# Altium schematic symbol library Alhambra_II.SCHLIB: 50 symbols
Pins are listed as number, name and electrical type; pins without a type are passive.

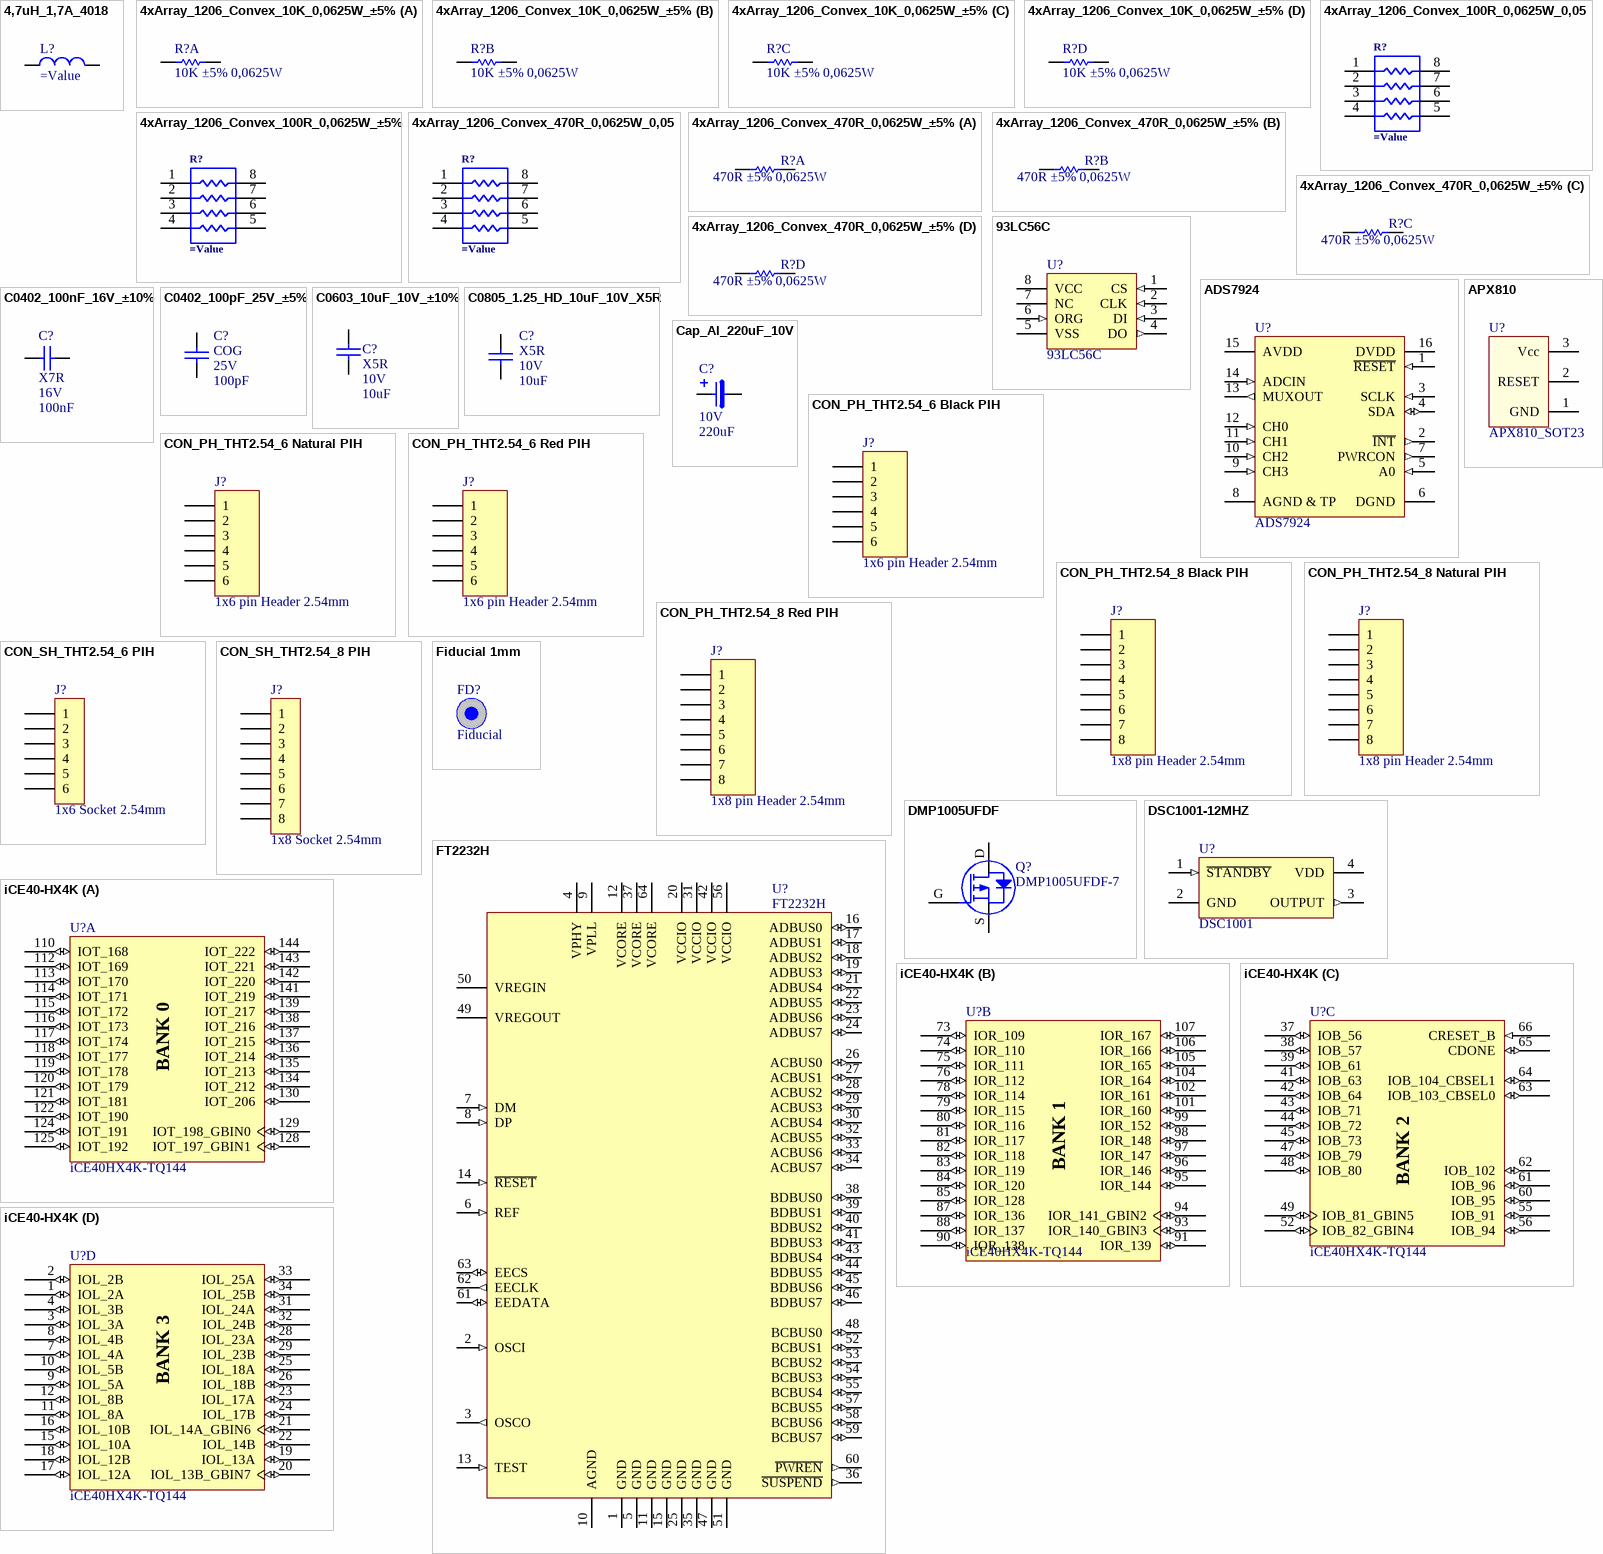
[diagram p0: symbols 4,7uH_1,7A_4018 to iCE40-HX4K]

## 4,7uH_1,7A_4018
designator L?
Inductor SMD; Part Number: 4,7uH_1,7A_4018; Manufacturer: WE; L: 4,7uH; Rdc: 0,070R; Current: 1,7A; Current Sat#: 2,2A; OrderingCode: 74404042047; Temp_ Max: 125; Temp_ Min: -40; Value: 4,7uH 1,7A; Supplier: WE; Price (€): 0,128
signal-integrity model Inductor
footprint 4018_WE_LQS_4R7
pins: 1, 2

## 4xArray_1206_Convex_10K_0,0625W_±5%
designator R?, comment value 10K ±5% 0,0625W  (hidden comment: Resistor_x4_Parts)
Resistor; Part Number: 4xArray_1206_Convex_10K_0,0625W_±5%; Manufacturer: Yageo; Tolerance: ±5%; OrderingCode: YC164-JR-0710KL; Power: 0,0625W; Resistance: 10K; Temp_ Max: 155; Temp_ Min: -55; PackageDescription: SMD; Price (€): 0,006
footprint 4xArray_1206_Convex
part A pins: 1, 8
part B pins: 2, 7
part C pins: 3, 6
part D pins: 4, 5

## 4xArray_1206_Convex_100R_0,0625W_0,05
designator R?
Resistor, Array 4x1; Part Number: 4xArray_1206_Convex_100R_0,0625W_0,05; Manufacturer: Yageo; Resistance: 100R; Power: 0,0625W; Tolerance: 5%; OrderingCode: YC164-JR-07100RL; Temp_ Max: 155; Temp_ Min: -25; Value: 100R 5% 0,0625W; Price (€): 0,005
footprint 4xArray_1206_Convex
pins: 1, 2, 3, 4, 5, 6, 7, 8
1 alternate drawing of the same symbol

## 4xArray_1206_Convex_100R_0,0625W_±5%
designator R?
Resistor, Array 4x1; Part Number: 4xArray_1206_Convex_100R_0,0625W_±5%; Manufacturer: Yageo; Resistance: 100R; Power: 0,0625W; Tolerance: ±5%; OrderingCode: YC164-JR-07100RL; Temp_ Max: 155; Temp_ Min: -55; Value: 100R ±5% 0,0625W; Price (€): 0,006
footprint 4xArray_1206_Convex
pins: 1, 2, 3, 4, 5, 6, 7, 8
1 alternate drawing of the same symbol

## 4xArray_1206_Convex_470R_0,0625W_0,05
designator R?
Resistor, Array 4x1; Part Number: 4xArray_1206_Convex_470R_0,0625W_0,05; Manufacturer: Yageo; Resistance: 470R; Power: 0,0625W; Tolerance: 5%; OrderingCode: YC164-JR-07470RL; Temp_ Max: 155; Temp_ Min: -25; Value: 470R 5% 0,0625W; Price (€): 0,006
footprint 4xArray_1206_Convex
pins: 1, 2, 3, 4, 5, 6, 7, 8
1 alternate drawing of the same symbol

## 4xArray_1206_Convex_470R_0,0625W_±5%
designator R?, comment value 470R ±5% 0,0625W  (hidden comment: Resistor_x4_Parts)
Resistor; Part Number: 4xArray_1206_Convex_470R_0,0625W_±5%; Manufacturer: Yageo; Tolerance: ±5%; OrderingCode: YC164-JR-07470RL; Power: 0,0625W; Resistance: 470R; Temp_ Max: 155; Temp_ Min: -25; PackageDescription: SMD; Price (€): 0,006
footprint 4xArray_1206_Convex
part A pins: 1, 8
part B pins: 2, 7
part C pins: 3, 6
part D pins: 4, 5

## 93LC56C
designator U?
EEPROM, 2K Microwire Compatible Serial, 8 or 16 bit word size, 2.5-5.5 Vcc range; Manufacturer: Microchip; OrderingCode: 93LC56CT-I/MS; Temp_ Max: 85; Temp_ Min: -40; Value: 2Kb; Part Number: 93LC56C; Supplier: Silica; Price (€): 0,24
footprint MSOP8
pins: 1 CS (in), 2 CLK (in), 3 DI (in), 4 DO (out), 5 VSS (power), 6 ORG (in), 7 NC, 8 VCC (power)

## ADS7924
designator U?
ADC Converter, 12-Bit, 4-Ch, I2C; Manufacturer: Texas Instruments; OrderingCode: ADS7924IRTER; Temp_ Max: 85; Temp_ Min: -40; Part Number: ADS7924; Supplier: Silica; Price (€): 1,35
footprint QFN16
pins: 0 TP (power), 1 ~{RESET} (in), 2 ~{INT} (out), 3 SCLK (in), 4 SDA (io), 5 A0 (in), 6 DGND (power), 7 PWRCON (out), 8 AGND & TP (power), 9 CH3 (in), 10 CH2 (in), 11 CH1 (in), 12 CH0 (in), 13 MUXOUT (out), 14 ADCIN (in), 15 AVDD (power), 16 DVDD (power)

## APX810
designator U?, comment APX810_SOT23
Voltage supervisor, Reset active high, 200ms; Part Number: APX810; Manufacturer: Diodes Incorporated; OrderingCode: APX810-29SAG-7; Temp_ Max: 105; Temp_ Min: -40; Value: 2,93V; Supplier: Silica; Price (€): 0,1
footprint SOT23-3
pins: 1 GND, 2 RESET, 3 Vcc

## C0402_100nF_16V_±10%
designator C?, comment Dielectric: X7R  Voltage: 16V  Capacitance: 100nF  (hidden comment: Capacitor)
Capacitor SMD; Part Number: C0402_100nF_16V_±10%; Manufacturer: Kemet; Value: 100nF ±10% 16V; Tolerance: ±10%; OrderingCode: C0402C104K4RAC; Temp_ Max: 125; Temp_ Min: -55; Price (€): 0,05
footprint C0402
pins: 1, 2

## C0402_100pF_25V_±5%
designator C?, comment Dielectric: COG  Voltage: 25V  Capacitance: 100pF  (hidden comment: Capacitor)
Capacitor SMD; Part Number: C0402_100pF_25V_±5%; Manufacturer: WE; Value: 100pF ±5% 25V; Tolerance: ±5%; OrderingCode: 885012005046; Temp_ Max: 125; Temp_ Min: -55; Price (€): 0,007
footprint C0402
pins: 1, 2

## C0603_10uF_10V_±10%
designator C?, comment Dielectric: X5R  Voltage: 10V  Capacitance: 10uF  (hidden comment: Capacitor)
Capacitor SMD; Part Number: C0603_10uF_10V_±10%; Manufacturer: Murata; Value: 10uF ±10% 10V; Tolerance: ±10%; OrderingCode: GRM188R61A106KE69D; Temp_ Max: 85; Temp_ Min: -55; Price (€): 0,027
footprint C0603
pins: 1, 2

## C0805_1.25_HD_10uF_10V_X5R
designator C?, comment Dielectric: X5R  Voltage: 10V  Capacitance: 10uF  (hidden comment: Capacitor)
Capacitor SMD; Part Number: C0805_1.25_HD_10uF_10V_X5R; Manufacturer: Taiyo Yuden; Value: 10uF ±10% 10V; Tolerance: ±10%; OrderingCode: LMK212ABJ106KG; Temp_ Max: 85; Temp_ Min: -55; Price (€): 0,03
footprint C0805_1.25_HD
pins: 1, 2

## Cap_Al_220uF_10V
designator C?, comment Voltage: 10V  Capacitance: 220uF  (hidden comment: Electrolytic)
Capacitor, Electrolytic, SMD; Part Number: Cap_Al_220uF_10V; Manufacturer: WE; Value: 220uF 10V; OrderingCode: 875105244013; Temp_ Max: 105; Temp_ Min: -55; Price (€): 0,3
footprint C_POL_6.3x5.8_WE
pins: 1, 2

## CON_PH_THT2.54_6 Black PIH
designator J?, comment 1x6 pin Header 2.54mm
Connector, 1x6 pin Header 2.54mm; Manufacturer: Samtec; Part Number: CON_PH_THT2.54_6 Black PIH; OrderingCode: HTSW-106-07-T-S-BLACK; Temp_ Max: 105; Temp_ Min: -55; Pitch: 2.54mm; Supplier: Samtec; Price (€): 0,26
footprint 1x6 Pin Header 2.54 BLACK PIH
pins: 1, 2, 3, 4, 5, 6

## CON_PH_THT2.54_6 Natural PIH
designator J?, comment 1x6 pin Header 2.54mm
Connector, 1x6 pin Header 2.54mm; Manufacturer: Samtec; Part Number: CON_PH_THT2.54_6 Natural PIH; OrderingCode: HTSW-106-07-T-S-NATURAL; Temp_ Max: 105; Temp_ Min: -55; Pitch: 2.54mm; Supplier: Samtec; Price (€): 0,26
footprint 1x6 Pin Header 2.54 WHITE PIH
pins: 1, 2, 3, 4, 5, 6

## CON_PH_THT2.54_6 Red PIH
designator J?, comment 1x6 pin Header 2.54mm
Connector, 1x6 pin Header 2.54mm; Manufacturer: Samtec; Part Number: CON_PH_THT2.54_6 Red PIH; OrderingCode: HTSW-106-07-T-S-RED; Temp_ Max: 105; Temp_ Min: -55; Pitch: 2.54mm; Supplier: Samtec; Price (€): 0,26
footprint 1x6 Pin Header 2.54 RED PIH
pins: 1, 2, 3, 4, 5, 6

## CON_PH_THT2.54_8 Black PIH
designator J?, comment 1x8 pin Header 2.54mm
Connector, 1x8 pin Header 2.54mm; Manufacturer: Samtec; Part Number: CON_PH_THT2.54_8 Black PIH; OrderingCode: HTSW-108-07-T-S-BLACK; Temp_ Max: 105; Temp_ Min: -55; Pitch: 2.54mm; Supplier: Samtec; Price (€): 0,35
footprint 1x8 Pin Header 2.54 BLACK PIH
pins: 1, 2, 3, 4, 5, 6, 7, 8

## CON_PH_THT2.54_8 Natural PIH
designator J?, comment 1x8 pin Header 2.54mm
Connector, 1x8 pin Header 2.54mm; Manufacturer: Samtec; Part Number: CON_PH_THT2.54_8 Natural PIH; OrderingCode: HTSW-108-07-T-S-NATURAL; Temp_ Max: 105; Temp_ Min: -55; Pitch: 2.54mm; Supplier: Samtec; Price (€): 0,35
footprint 1x8 Pin Header 2.54 WHITE PIH
pins: 1, 2, 3, 4, 5, 6, 7, 8

## CON_PH_THT2.54_8 Red PIH
designator J?, comment 1x8 pin Header 2.54mm
Connector, 1x8 pin Header 2.54mm; Manufacturer: Samtec; Part Number: CON_PH_THT2.54_8 Red PIH; OrderingCode: HTSW-108-07-T-S-RED; Temp_ Max: 105; Temp_ Min: -55; Pitch: 2.54mm; Supplier: Samtec; Price (€): 0,35
footprint 1x8 Pin Header 2.54 RED PIH
pins: 1, 2, 3, 4, 5, 6, 7, 8

## CON_SH_THT2.54_6 PIH
designator J?, comment 1x6 Socket 2.54mm
Connector, 6 pin Socket Header 2.54mm; Manufacturer: Samtec; Part Number: CON_SH_THT2.54_6 PIH; OrderingCode: SSW-106-01-T-S; Temp_ Max: 125; Temp_ Min: -40; Value: 6 PIH; OrderingCode 2: 613 006 118 21; Pitch: 2.54mm; Supplier: Samtec; Price (€): 0,381; Manufacturer 2: Würth Elektronik
footprint 1x6 Socket Header THT 2.54mm PIH
pins: 1, 2, 3, 4, 5, 6

## CON_SH_THT2.54_8 PIH
designator J?, comment 1x8 Socket 2.54mm
Connector, 8 pin Socket Header 2.54mm; Manufacturer: Samtec; Part Number: CON_SH_THT2.54_8 PIH; OrderingCode: SSW-108-01-T-S; Temp_ Max: 125; Temp_ Min: -40; Value: 8 PIH; OrderingCode 2: 613 008 118 21; Pitch: 2.54mm; Supplier: Samtec; Price (€): 0,438; Manufacturer 2: Würth Elektronik
footprint 1x8 Socket Header THT 2.54mm PIH
pins: 1, 2, 3, 4, 5, 6, 7, 8

## DMP1005UFDF
designator Q?, comment DMP1005UFDF-7
P-Channel MOSFET; Manufacturer: Diodes Incorporated; Vds: 12V; Vgss: 8V; Id: 26A; Temp_ Max: 150; Temp_ Min: -55; Part Number: DMP1005UFDF; OrderingCode: DMP1005UFDF-7; Price (€): 0,16
footprint U-DFN2020-6
pins: D, G, S
1 alternate drawing of the same symbol

## DSC1001-12MHZ
designator U?, comment DSC1001
Oscillator, Low-Power CMOS, 4 pin, 1.8-3.3V; Part Number: DSC1001-12MHZ; Manufacturer: Microchip; OrderingCode: DSC1001CL2-012.0000; Temp_ Max: 105; Temp_ Min: -40; Value: 12MHz; Price (€): 0,61
footprint OSC 3.2x2.5
pins: 1 ~{STANDBY} (in), 2 GND (power), 3 OUTPUT (out), 4 VDD (power)

## Fiducial 1mm
designator FD?, comment Fiducial  (no BOM)
Fiducial Mark; Part Number: Fiducial 1mm
footprint Fiducial_1mm

## FT2232H
designator U?
Dual High Speed USB to Multipurpose UART/FIFO IC; Manufacturer: FTDI; OrderingCode: FT2232HQ-REEL; Temp_ Max: 85; Temp_ Min: -40; Part Number: FT2232H; Supplier: Silica; Price (€): 3,45
footprint FTDI_QFN-64
pins: 1 GND (power), 2 OSCI (in), 3 OSCO (out), 4 VPHY (power), 5 GND (power), 6 REF (in), 7 DM (in), 8 DP (in), 9 VPLL (power), 10 AGND (power), 11 GND (power), 12 VCORE (power), 13 TEST (in), 14 ~{RESET} (in), 15 GND (power), 16 ADBUS0 (io), 17 ADBUS1 (io), 18 ADBUS2 (io), 19 ADBUS3 (io), 20 VCCIO (power), 21 ADBUS4 (io), 22 ADBUS5 (io), 23 ADBUS6 (io), 24 ADBUS7 (io), 25 GND (power), 26 ACBUS0 (io), 27 ACBUS1 (io), 28 ACBUS2 (io), 29 ACBUS3 (io), 30 ACBUS4 (io), 31 VCCIO (power), 32 ACBUS5 (io), 33 ACBUS6 (io), 34 ACBUS7 (io), 35 GND (power), 36 ~{SUSPEND} (out), 37 VCORE (power), 38 BDBUS0 (io), 39 BDBUS1 (io), 40 BDBUS2 (io), 41 BDBUS3 (io), 42 VCCIO (power), 43 BDBUS4 (io), 44 BDBUS5 (io), 45 BDBUS6 (io), 46 BDBUS7 (io), 47 GND (power), 48 BCBUS0 (io), 49 VREGOUT (power), 50 VREGIN (power), 51 GND (power), 52 BCBUS1 (io), 53 BCBUS2 (io), 54 BCBUS3 (io), 55 BCBUS4 (io), 56 VCCIO (power), 57 BCBUS5 (io), 58 BCBUS6 (io), 59 BCBUS7 (io), 60 ~{PWREN} (out), 61 EEDATA (io), 62 EECLK (out), 63 EECS (io), 64 VCORE (power)

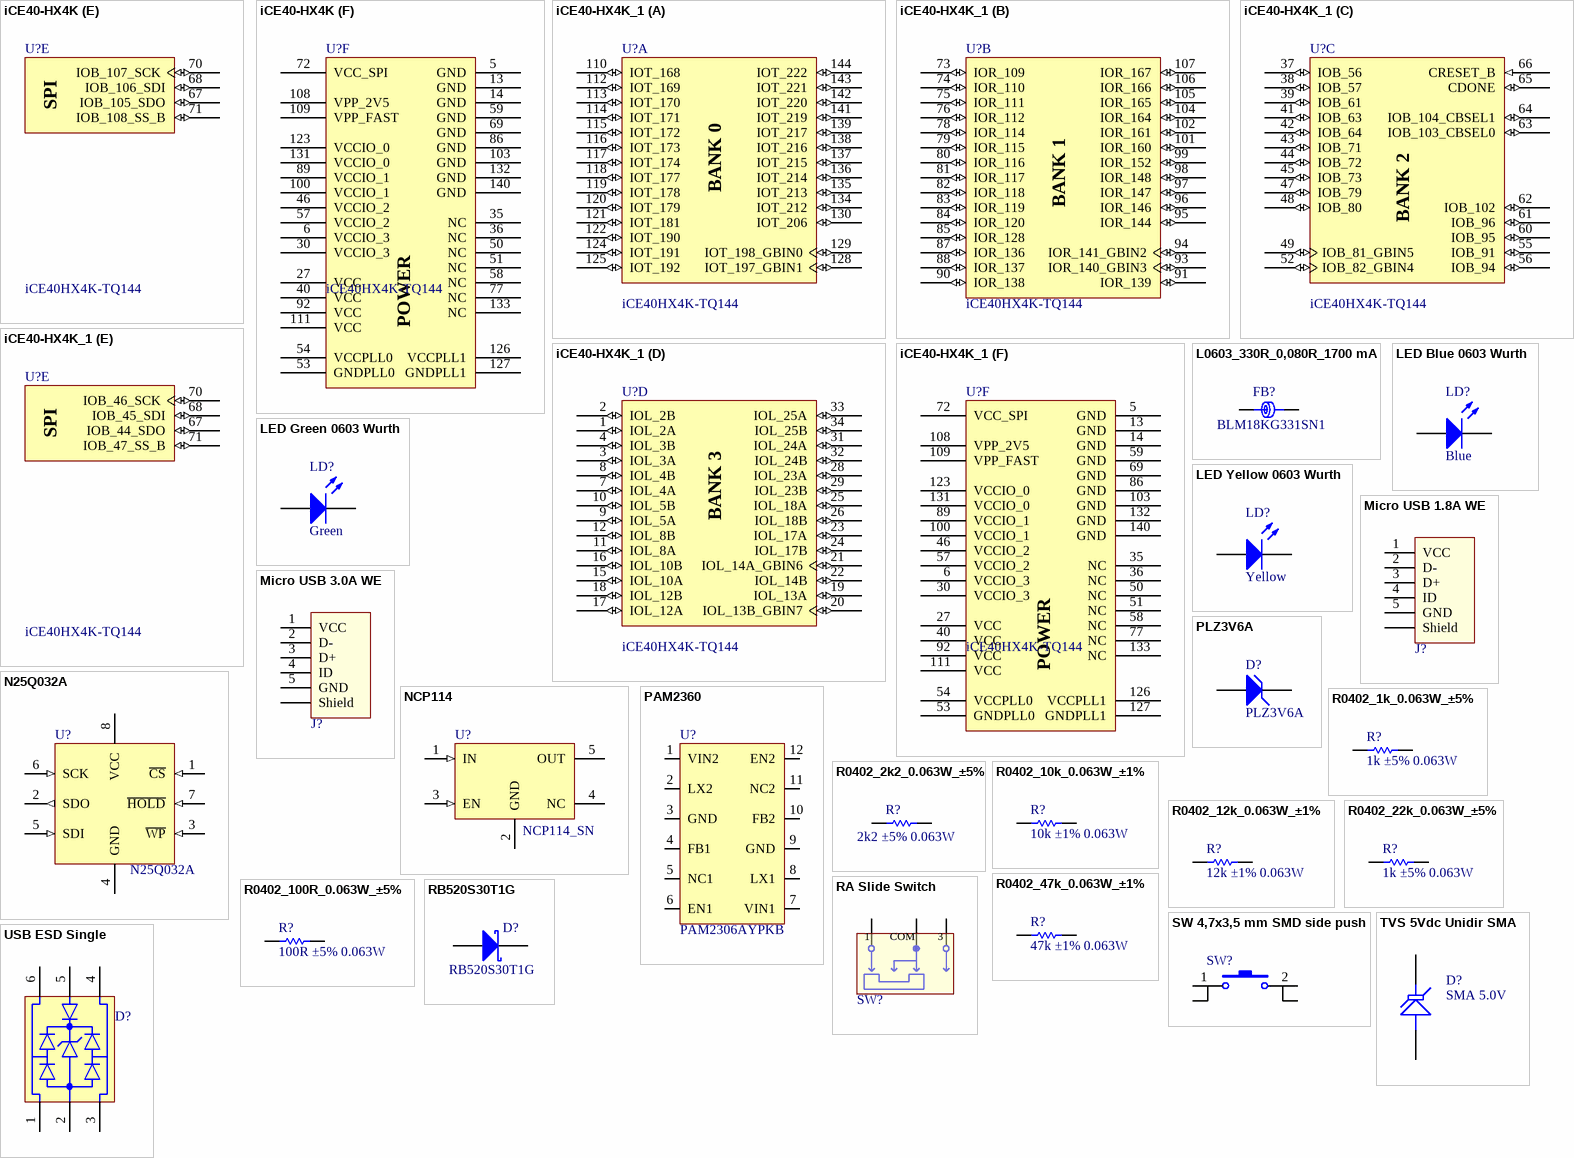
[diagram p1: symbols iCE40-HX4K to USB ESD Single]

## iCE40-HX4K
designator U?, comment iCE40HX4K-TQ144
iCE40 HX4K Series FPGA Family, 3520 Logic Cells, 1.2 V Core, 80 K Embedded RAM Bits, 144-pin TQFP, Pb-Free, Tray; Part Number: iCE40-HX4K; Manufacturer: Lattice; Temp_ Max: 85; Temp_ Min: -40; OrderingCode: iCE40HX4K-TQ144; Price (€): 6
footprint TQFP-144_HX4K_FPGAwars
part A pins: 110 IOT_168 (io), 112 IOT_169 (io), 113 IOT_170 (io), 114 IOT_171 (io), 115 IOT_172 (io), 116 IOT_173 (io), 117 IOT_174 (io), 118 IOT_177 (io), 119 IOT_178 (io), 120 IOT_179 (io), 121 IOT_181 (io), 122 IOT_190 (io), 124 IOT_191 (io), 125 IOT_192 (io), 128 IOT_197_GBIN1 (io), 129 IOT_198_GBIN0 (io), 130 IOT_206 (io), 134 IOT_212 (io), 135 IOT_213 (io), 136 IOT_214 (io), 137 IOT_215 (io), 138 IOT_216 (io), 139 IOT_217 (io), 141 IOT_219 (io), 142 IOT_220 (io), 143 IOT_221 (io), 144 IOT_222 (io)
part B pins: 73 IOR_109 (io), 74 IOR_110 (io), 75 IOR_111 (io), 76 IOR_112 (io), 78 IOR_114 (io), 79 IOR_115 (io), 80 IOR_116 (io), 81 IOR_117 (io), 82 IOR_118 (io), 83 IOR_119 (io), 84 IOR_120 (io), 85 IOR_128 (io), 87 IOR_136 (io), 88 IOR_137 (io), 90 IOR_138 (io), 91 IOR_139 (io), 93 IOR_140_GBIN3 (io), 94 IOR_141_GBIN2 (io), 95 IOR_144 (io), 96 IOR_146 (io), 97 IOR_147 (io), 98 IOR_148 (io), 99 IOR_152 (io), 101 IOR_160 (io), 102 IOR_161 (io), 104 IOR_164 (io), 105 IOR_165 (io), 106 IOR_166 (io), 107 IOR_167 (io)
part C pins: 37 IOB_56 (io), 38 IOB_57 (io), 39 IOB_61 (io), 41 IOB_63 (io), 42 IOB_64 (io), 43 IOB_71 (io), 44 IOB_72 (io), 45 IOB_73 (io), 47 IOB_79 (io), 48 IOB_80 (io), 49 IOB_81_GBIN5 (io), 52 IOB_82_GBIN4 (io), 55 IOB_91 (io), 56 IOB_94 (io), 60 IOB_95 (io), 61 IOB_96 (io), 62 IOB_102 (io), 63 IOB_103_CBSEL0 (io), 64 IOB_104_CBSEL1 (io), 65 CDONE (io) "Configuration Done. Includes a permanent weak pull-up resistor to VCCIO_2. If driving external devices with CDONE output, an external pull-up resistor to VCCIO_2 may be required. Refer to the TN1248, iCE40 Programming and (See Datasheet)", 66 CRESET_B (in) "Configuration Reset, active Low. Dedicated input. No internal pull-up resistor. Either actively drive externally or connect a 10 KOhm pull-up resistor to VCCIO_2."
part D pins: 1 IOL_2A (io), 2 IOL_2B (io), 3 IOL_3A (io), 4 IOL_3B (io), 7 IOL_4A (io), 8 IOL_4B (io), 9 IOL_5A (io), 10 IOL_5B (io), 11 IOL_8A (io), 12 IOL_8B (io), 15 IOL_10A (io), 16 IOL_10B (io), 17 IOL_12A (io), 18 IOL_12B (io), 19 IOL_13A (io), 20 IOL_13B_GBIN7 (io), 21 IOL_14A_GBIN6 (io), 22 IOL_14B (io), 23 IOL_17A (io), 24 IOL_17B (io), 25 IOL_18A (io), 26 IOL_18B (io), 28 IOL_23A (io), 29 IOL_23B (io), 31 IOL_24A (io), 32 IOL_24B (io), 33 IOL_25A (io), 34 IOL_25B (io)
part E pins: 67 IOB_105_SDO (io), 68 IOB_106_SDI (io), 70 IOB_107_SCK (io), 71 IOB_108_SS_B (io)
part F pins: 5 GND (power) "GND - Ground. Dedicated pins. It is recommended that all GNDs are tied together.", 6 VCCIO_3 (power) "VCCIO - The power supply pins for I/O Bank 3. Dedicated pins. All VCCIOs located in the same bank are tied to the same supply.", 13 GND (power) "GND - Ground. Dedicated pins. It is recommended that all GNDs are tied together.", 14 GND (power) "GND - Ground. Dedicated pins. It is recommended that all GNDs are tied together.", 27 VCC (power) "VCC - The power supply pins for core logic. Dedicated pins. It is recommended that all VCCs are tied to the same supply.", 30 VCCIO_3 (power) "VCCIO - The power supply pins for I/O Bank 3. Dedicated pins. All VCCIOs located in the same bank are tied to the same supply.", 35 NC "No connect", 36 NC "No connect", 40 VCC (power) "VCC - The power supply pins for core logic. Dedicated pins. It is recommended that all VCCs are tied to the same supply.", 46 VCCIO_2 (power) "VCCIO - The power supply pins for I/O Bank 2. Dedicated pins. All VCCIOs located in the same bank are tied to the same supply.", 50 NC "No connect", 51 NC "No connect", 53 GNDPLL0 (power) "PLL GND - Ground. Dedicated pins. The sysCLOCK PLL has the DC ground connection made on the FPGA, so the external PLL ground connection (GNDPLL) must NOT be connected to the board’s ground", 54 VCCPLL0 (power) "PLL VCC - Power. Dedicated pins. The PLL requires a separate power and ground that is quiet and stable to reduce the output clock jitter of the PLL", 57 VCCIO_2 (power) "VCCIO - The power supply pins for I/O Bank 2. Dedicated pins. All VCCIOs located in the same bank are tied to the same supply.", 58 NC "No connect", 59 GND (power) "GND - Ground. Dedicated pins. It is recommended that all GNDs are tied together.", 69 GND (power) "GND - Ground. Dedicated pins. It is recommended that all GNDs are tied together.", 72 VCC_SPI (power) "SPI interface voltage supply input. Must have a valid voltage even if configuring from NVCM.", 77 NC "No connect", 86 GND (power) "GND - Ground. Dedicated pins. It is recommended that all GNDs are tied together.", 89 VCCIO_1 (power) "VCCIO - The power supply pins for I/O Bank 1. Dedicated pins. All VCCIOs located in the same bank are tied to the same supply.", 92 VCC (power) "VCC - The power supply pins for core logic. Dedicated pins. It is recommended that all VCCs are tied to the same supply.", 100 VCCIO_1 (power) "VCCIO - The power supply pins for I/O Bank 1. Dedicated pins. All VCCIOs located in the same bank are tied to the same supply.", 103 GND (power) "GND - Ground. Dedicated pins. It is recommended that all GNDs are tied together.", 108 VPP_2V5 (power) "VPP_2V5 NVCM programming and operating supply", 109 VPP_FAST (power) "Optional fast NVCM programming supply. VPP_FAST, used only for fast production programming, must be left floating or unconnected in applications, except CM36 and CM49 packages MUST have the VPP_FAST ball connected to VCCIO_0 (See Datasheet)", 111 VCC (power) "VCC - The power supply pins for core logic. Dedicated pins. It is recommended that all VCCs are tied to the same supply.", 123 VCCIO_0 (power) "VCCIO - The power supply pins for I/O Bank 0. Dedicated pins. All VCCIOs located in the same bank are tied to the same supply.", 126 VCCPLL1 (power) "PLL VCC - Power. Dedicated pins. The PLL requires a separate power and ground that is quiet and stable to reduce the output clock jitter of the PLL", 127 GNDPLL1 (power) "PLL GND - Ground. Dedicated pins. The sysCLOCK PLL has the DC ground connection made on the FPGA, so the external PLL ground connection (GNDPLL) must NOT be connected to the board’s ground", 131 VCCIO_0 (power) "VCCIO - The power supply pins for I/O Bank 0. Dedicated pins. All VCCIOs located in the same bank are tied to the same supply.", 132 GND (power) "GND - Ground. Dedicated pins. It is recommended that all GNDs are tied together.", 133 NC "No connect", 140 GND (power) "GND - Ground. Dedicated pins. It is recommended that all GNDs are tied together."
part A text: BANK 0
part B text: BANK 1
part C text: BANK 2
part D text: BANK 3
part E text: SPI
part F text: POWER

## iCE40-HX4K_1
designator U?, comment iCE40HX4K-TQ144
iCE40 HX4K Series FPGA Family, 3520 Logic Cells, 1.2 V Core, 80 K Embedded RAM Bits, 144-pin TQFP, Pb-Free, Tray; Part Number: iCE40-HX4K; Manufacturer: Lattice; Temp_ Max: 85; Temp_ Min: -40; OrderingCode: iCE40HX4K-TQ144; Price (€): 5
footprint TQFP-144_IPC-MD_HX1K
part A pins: 110 IOT_168 (io), 112 IOT_169 (io), 113 IOT_170 (io), 114 IOT_171 (io), 115 IOT_172 (io), 116 IOT_173 (io), 117 IOT_174 (io), 118 IOT_177 (io), 119 IOT_178 (io), 120 IOT_179 (io), 121 IOT_181 (io), 122 IOT_190 (io), 124 IOT_191 (io), 125 IOT_192 (io), 128 IOT_197_GBIN1 (io), 129 IOT_198_GBIN0 (io), 130 IOT_206 (io), 134 IOT_212 (io), 135 IOT_213 (io), 136 IOT_214 (io), 137 IOT_215 (io), 138 IOT_216 (io), 139 IOT_217 (io), 141 IOT_219 (io), 142 IOT_220 (io), 143 IOT_221 (io), 144 IOT_222 (io)
part B pins: 73 IOR_109 (io), 74 IOR_110 (io), 75 IOR_111 (io), 76 IOR_112 (io), 78 IOR_114 (io), 79 IOR_115 (io), 80 IOR_116 (io), 81 IOR_117 (io), 82 IOR_118 (io), 83 IOR_119 (io), 84 IOR_120 (io), 85 IOR_128 (io), 87 IOR_136 (io), 88 IOR_137 (io), 90 IOR_138 (io), 91 IOR_139 (io), 93 IOR_140_GBIN3 (io), 94 IOR_141_GBIN2 (io), 95 IOR_144 (io), 96 IOR_146 (io), 97 IOR_147 (io), 98 IOR_148 (io), 99 IOR_152 (io), 101 IOR_160 (io), 102 IOR_161 (io), 104 IOR_164 (io), 105 IOR_165 (io), 106 IOR_166 (io), 107 IOR_167 (io)
part C pins: 37 IOB_56 (io), 38 IOB_57 (io), 39 IOB_61 (io), 41 IOB_63 (io), 42 IOB_64 (io), 43 IOB_71 (io), 44 IOB_72 (io), 45 IOB_73 (io), 47 IOB_79 (io), 48 IOB_80 (io), 49 IOB_81_GBIN5 (io), 52 IOB_82_GBIN4 (io), 55 IOB_91 (io), 56 IOB_94 (io), 60 IOB_95 (io), 61 IOB_96 (io), 62 IOB_102 (io), 63 IOB_103_CBSEL0 (io), 64 IOB_104_CBSEL1 (io), 65 CDONE (io) "Configuration Done. Includes a permanent weak pull-up resistor to VCCIO_2. If driving external devices with CDONE output, an external pull-up resistor to VCCIO_2 may be required. Refer to the TN1248, iCE40 Programming and (See Datasheet)", 66 CRESET_B (in) "Configuration Reset, active Low. Dedicated input. No internal pull-up resistor. Either actively drive externally or connect a 10 KOhm pull-up resistor to VCCIO_2."
part D pins: 1 IOL_2A (io), 2 IOL_2B (io), 3 IOL_3A (io), 4 IOL_3B (io), 7 IOL_4A (io), 8 IOL_4B (io), 9 IOL_5A (io), 10 IOL_5B (io), 11 IOL_8A (io), 12 IOL_8B (io), 15 IOL_10A (io), 16 IOL_10B (io), 17 IOL_12A (io), 18 IOL_12B (io), 19 IOL_13A (io), 20 IOL_13B_GBIN7 (io), 21 IOL_14A_GBIN6 (io), 22 IOL_14B (io), 23 IOL_17A (io), 24 IOL_17B (io), 25 IOL_18A (io), 26 IOL_18B (io), 28 IOL_23A (io), 29 IOL_23B (io), 31 IOL_24A (io), 32 IOL_24B (io), 33 IOL_25A (io), 34 IOL_25B (io)
part E pins: 67 IOB_44_SDO (io), 68 IOB_45_SDI (io), 70 IOB_46_SCK (io), 71 IOB_47_SS_B (io)
part F pins: 5 GND (power) "GND - Ground. Dedicated pins. It is recommended that all GNDs are tied together.", 6 VCCIO_3 (power) "VCCIO - The power supply pins for I/O Bank 3. Dedicated pins. All VCCIOs located in the same bank are tied to the same supply.", 13 GND (power) "GND - Ground. Dedicated pins. It is recommended that all GNDs are tied together.", 14 GND (power) "GND - Ground. Dedicated pins. It is recommended that all GNDs are tied together.", 27 VCC (power) "VCC - The power supply pins for core logic. Dedicated pins. It is recommended that all VCCs are tied to the same supply.", 30 VCCIO_3 (power) "VCCIO - The power supply pins for I/O Bank 3. Dedicated pins. All VCCIOs located in the same bank are tied to the same supply.", 35 NC "No connect", 36 NC "No connect", 40 VCC (power) "VCC - The power supply pins for core logic. Dedicated pins. It is recommended that all VCCs are tied to the same supply.", 46 VCCIO_2 (power) "VCCIO - The power supply pins for I/O Bank 2. Dedicated pins. All VCCIOs located in the same bank are tied to the same supply.", 50 NC "No connect", 51 NC "No connect", 53 GNDPLL0 (power) "PLL GND - Ground. Dedicated pins. The sysCLOCK PLL has the DC ground connection made on the FPGA, so the external PLL ground connection (GNDPLL) must NOT be connected to the board’s ground", 54 VCCPLL0 (power) "PLL VCC - Power. Dedicated pins. The PLL requires a separate power and ground that is quiet and stable to reduce the output clock jitter of the PLL", 57 VCCIO_2 (power) "VCCIO - The power supply pins for I/O Bank 2. Dedicated pins. All VCCIOs located in the same bank are tied to the same supply.", 58 NC "No connect", 59 GND (power) "GND - Ground. Dedicated pins. It is recommended that all GNDs are tied together.", 69 GND (power) "GND - Ground. Dedicated pins. It is recommended that all GNDs are tied together.", 72 VCC_SPI (power) "SPI interface voltage supply input. Must have a valid voltage even if configuring from NVCM.", 77 NC "No connect", 86 GND (power) "GND - Ground. Dedicated pins. It is recommended that all GNDs are tied together.", 89 VCCIO_1 (power) "VCCIO - The power supply pins for I/O Bank 1. Dedicated pins. All VCCIOs located in the same bank are tied to the same supply.", 92 VCC (power) "VCC - The power supply pins for core logic. Dedicated pins. It is recommended that all VCCs are tied to the same supply.", 100 VCCIO_1 (power) "VCCIO - The power supply pins for I/O Bank 1. Dedicated pins. All VCCIOs located in the same bank are tied to the same supply.", 103 GND (power) "GND - Ground. Dedicated pins. It is recommended that all GNDs are tied together.", 108 VPP_2V5 (power) "VPP_2V5 NVCM programming and operating supply", 109 VPP_FAST (power) "Optional fast NVCM programming supply. VPP_FAST, used only for fast production programming, must be left floating or unconnected in applications, except CM36 and CM49 packages MUST have the VPP_FAST ball connected to VCCIO_0 (See Datasheet)", 111 VCC (power) "VCC - The power supply pins for core logic. Dedicated pins. It is recommended that all VCCs are tied to the same supply.", 123 VCCIO_0 (power) "VCCIO - The power supply pins for I/O Bank 0. Dedicated pins. All VCCIOs located in the same bank are tied to the same supply.", 126 VCCPLL1 (power) "PLL VCC - Power. Dedicated pins. The PLL requires a separate power and ground that is quiet and stable to reduce the output clock jitter of the PLL", 127 GNDPLL1 (power) "PLL GND - Ground. Dedicated pins. The sysCLOCK PLL has the DC ground connection made on the FPGA, so the external PLL ground connection (GNDPLL) must NOT be connected to the board’s ground", 131 VCCIO_0 (power) "VCCIO - The power supply pins for I/O Bank 0. Dedicated pins. All VCCIOs located in the same bank are tied to the same supply.", 132 GND (power) "GND - Ground. Dedicated pins. It is recommended that all GNDs are tied together.", 133 NC "No connect", 140 GND (power) "GND - Ground. Dedicated pins. It is recommended that all GNDs are tied together."
part A text: BANK 0
part B text: BANK 1
part C text: BANK 2
part D text: BANK 3
part E text: SPI
part F text: POWER

## L0603_330R_0,080R_1700 mA
designator FB?, comment BLM18KG331SN1
Ferrite Bead; Part Number: L0603_330R_0,080R_1700 mA; Manufacturer: Murata; Resistance_100MHz: 330R; Resistance_DC: 0,080R; Current: 1700 mA; Temp_ Max: 125; Temp_ Min: -55; Value: 330R 0,080R 1700 mA; OrderingCode: BLM18KG331SN1; Price (€): 0,021
footprint L0603
pins: 1, 2

## LED Blue 0603 Wurth
designator LD?, comment Blue
LED; Part Number: LED Blue 0603 Wurth; Manufacturer: WE; OrderingCode: 150 060 BS7 5000; Temp_ Max: 85; Temp_ Min: -40; Price (€): 0,09; Value: Blue
footprint LED0603
pins: A, K

## LED Green 0603 Wurth
designator LD?, comment Green
LED; Part Number: LED Green 0603 Wurth; Manufacturer: WE; OrderingCode: 150 060 VS7 5000; Temp_ Max: 85; Temp_ Min: -40; Price (€): 0,07; Value: Green
footprint LED0603
pins: A, K

## LED Yellow 0603 Wurth
designator LD?, comment Yellow
LED; Part Number: LED Yellow 0603 Wurth; Manufacturer: WE; OrderingCode: 150 060 YS7 5000; Temp_ Max: 85; Temp_ Min: -40; Price (€): 0,07; Value: Yellow
footprint LED0603
pins: A, K

## Micro USB 1.8A WE
designator J?, comment 629105136821  (value not drawn)
Micro USB 2.0 SMT Type B Horizontal 5 Contacts WR-COM; Part Number: Micro USB 1.8A WE; Manufacturer: WE; Interface Type: Type B; Gender: Receptacle; Temp_ Max: 105; Temp_ Min: -40; ComponentLink1Description: Manufacturer; ComponentLink1URL: http://www.we-online.de; ComponentLink2Description: Datasheet; ComponentLink2URL: http://katalog.we-online.de/em/datasheet/629105136821.pdf; Published Date: April 2017; Publisher: Wurth Elektronik; Sub-Family: Micro USB 2.0; Type: Horizontal; Construction: SMT; OrderingCode: 629105136821; Supplier: WE; Price (€): 0,26
footprint 629105136821
pins: 1 VCC, 2 D-, 3 D+, 4 ID, 5 GND, Shell Shield

## Micro USB 3.0A WE
designator J?, comment 629105150521  (value not drawn)
Micro USB 2.0 SMT Type B Horizontal 5 Contacts High Current WR-COM; Part Number: Micro USB 3.0A WE; Manufacturer: WE; Interface Type: Type B; Gender: Receptacle; Temp_ Max: 85; Temp_ Min: -40; ComponentLink1Description: Manufacturer; ComponentLink1URL: http://www.we-online.de; ComponentLink2Description: Datasheet; ComponentLink2URL: http://katalog.we-online.de/em/datasheet/629105150521.pdf; Published Date: April 2017; Publisher: Wurth Elektronik; Sub-Family: Micro USB 2.0; Type: Horizontal; Construction: SMT; OrderingCode: 629105150521; Supplier: WE; Price (€): 0,58
footprint 629105150521
pins: 1 VCC, 2 D-, 3 D+, 4 ID, 5 GND, Shell Shield

## N25Q032A
designator U?
NOR Flash Memory, serial; Manufacturer: Micron; OrderingCode: N25Q032A13EF640E; Temp_ Max: 85; Temp_ Min: -40; OrderingCode 2: S25FL032P0XNFI011; Value: 32Mb; Part Number: N25Q032A; Supplier: Silica; Price (€): 0,9; Manufacturer 2: Spansion
footprint DFN-8 6x5mm
pins: 1 ~{CS} (in), 2 SDO (out), 3 ~{WP} (in), 4 GND (power), 5 SDI (in), 6 SCK (in), 7 ~{HOLD} (in), 8 VCC (power)

## NCP114
designator U?, comment NCP114_SN
LDO Regulator, 5pin, SOT-23; Part Number: NCP114; Manufacturer: ON Semiconductor; Voltage IN: 1,7 - 5.5V; Voltage OUT: 3,3V; Current OUT: 300 mA; OrderingCode: NCP114BSN330T1G; Temp_ Max: 85; Temp_ Min: -40; OrderingCode 2: NCP114ASN330T1G; Price (€): 0,07
footprint SOT23-5_M
pins: 1 IN (in), 2 GND (power), 3 EN (in), 4 NC, 5 OUT (power)

## PAM2360
designator U?, comment PAM2306AYPKB
Dual Step-Down DC/DC converter 1A, 1.5 MHz; Part Number: PAM2360; Manufacturer: Diodes; Voltage IN: 2.5 a 5.5 VDC; Voltage OUT: 1,2 a 3,3 VDC; Current OUT: 1A + 1A; Temp_ Max: 85; Temp_ Min: -40; OrderingCode 2: PAM2306AYPAA; OrderingCode: PAM2306AYPKB; Supplier: RS; Price (€): 0,32
footprint WDFN_12_3x3
pins: 1 VIN2, 2 LX2, 3 GND, 4 FB1, 5 NC1, 6 EN1, 7 VIN1, 8 LX1, 9 GND, 10 FB2, 11 NC2, 12 EN2

## PLZ3V6A
designator D?
Zener Diode; Manufacturer: Vishay; Vzener: 3,6V; Tolerance: 0,025; Izener: 20mA; Power: 500mW; Temp_ Max: 150; Temp_ Min: -55; Value: 3,6V; Part Number: PLZ3V6A; OrderingCode: PLZ3V6A; Price (€): 0,07
footprint DO-219AC
pins: A, k K

## R0402_1k_0.063W_±5%
designator R?, comment value 1k ±5% 0.063W  (hidden comment: Resistor)
Resistor, SMD; Part Number: R0402_1k_0.063W_±5%; Manufacturer: Vishay; Tolerance: ±5%; OrderingCode: CRCW04021K00JN; Power: 0.063W; Resistance: 1k; Temp_ Max: 155; Temp_ Min: -55; PackageDescription: SMD; Price (€): 0,003
footprint R0402
pins: 1, 2

## R0402_2k2_0.063W_±5%
designator R?, comment value 2k2 ±5% 0.063W  (hidden comment: Resistor)
Resistor, SMD; Part Number: R0402_2k2_0.063W_±5%; Manufacturer: Vishay; Tolerance: ±5%; OrderingCode: CRCW04022K20JN; Power: 0.063W; Resistance: 2k2; Temp_ Max: 155; Temp_ Min: -55; PackageDescription: SMD; Price (€): 0,003
footprint R0402
pins: 1, 2

## R0402_10k_0.063W_±1%
designator R?, comment value 10k ±1% 0.063W  (hidden comment: Resistor)
Resistor, SMD; Part Number: R0402_10k_0.063W_±1%; Manufacturer: Vishay; Tolerance: ±1%; OrderingCode: CRCW040210K0FK; Power: 0.063W; Resistance: 10k; Temp_ Max: 155; Temp_ Min: -55; PackageDescription: SMD; Price (€): 0,006
footprint R0402
pins: 1, 2

## R0402_12k_0.063W_±1%
designator R?, comment value 12k ±1% 0.063W  (hidden comment: Resistor)
Resistor, SMD; Part Number: R0402_12k_0.063W_±1%; Manufacturer: Vishay; Tolerance: ±1%; OrderingCode: CRCW040212K0FK; Power: 0.063W; Resistance: 12k; Temp_ Max: 155; Temp_ Min: -55; PackageDescription: SMD; Price (€): 0,006
footprint R0402
pins: 1, 2

## R0402_22k_0.063W_±5%
designator R?, comment value 1k ±5% 0.063W  (hidden comment: Resistor)
Resistor, SMD; Part Number: R0402_1k_0.063W_±5%; Manufacturer: Vishay; Tolerance: ±5%; OrderingCode: CRCW04021K00JN; Power: 0.063W; Resistance: 1k; Temp_ Max: 155; Temp_ Min: -55; PackageDescription: SMD; Price (€): 0,003
footprint R0402
pins: 1, 2

## R0402_47k_0.063W_±1%
designator R?, comment value 47k ±1% 0.063W  (hidden comment: Resistor)
Resistor, SMD; Part Number: R0402_47k_0.063W_±1%; Manufacturer: Vishay; Tolerance: ±1%; OrderingCode: CRCW040247K0FK; Power: 0.063W; Resistance: 47k; Temp_ Max: 155; Temp_ Min: -55; PackageDescription: SMD; Price (€): 0,006
footprint R0402
pins: 1, 2

## R0402_100R_0.063W_±5%
designator R?, comment value 100R ±5% 0.063W  (hidden comment: Resistor)
Resistor, SMD; Part Number: R0402_100R_0.063W_±5%; Manufacturer: Vishay; Tolerance: ±5%; OrderingCode: CRCW0402100RJN; Power: 0.063W; Resistance: 100R; Temp_ Max: 155; Temp_ Min: -55; PackageDescription: SMD; Price (€): 0,003
footprint R0402
pins: 1, 2

## RA Slide Switch
designator SW?, comment 450404015514  (value not drawn)
WS-SLSU 6.7x2.7 mm SMD Right Angled, boss design; Part Number: RA Slide Switch; Manufacturer: WE; Temp_ Max: 85; Temp_ Min: -40; ComponentLink1Description: Manufacturer; ComponentLink1URL: http://www.we-online.de; ComponentLink2Description: Datasheet; ComponentLink2URL: http://katalog.we-online.de/em/datasheet/450404015514.pdf; Published Date: March 2017; Publisher: Wurth Elektronik; OrderingCode: 450404015514; Supplier: WE; Price (€): 0,27
footprint 450404015514
pins: 1, 2 COM, 3

## RB520S30T1G
designator D?
Schottky Diode; Manufacturer: On Semiconductor; Ifor: 200mA; Vrrm: 30V; Ifsm: 300mA; Vf: 0,35V; Temp_ Max: 150; Temp_ Min: -55; Value: 200mA 30V; Part Number: RB520S30T1G; OrderingCode: RB520S30T1G; Price (€): 0,017
footprint SOD523
pins: A, k K

## SW 4,7x3,5 mm SMD side push
designator SW?, comment Switch_4P_SP_1-3_4-2  (value not drawn)
Micro miniature pushbutton surface Switch; Part Number: SW 4,7x3,5 mm SMD side push; Manufacturer: WE; OrderingCode: 436353045816; Temp_ Max: 85; Temp_ Min: -40; Supplier: WE; Price (€): 0,2
footprint 4363x30458xx
pins: 1, 2, 3, 4

## TVS 5Vdc Unidir SMA
designator D?, comment SMA 5.0V
Protection, Transient Suppression Diode; Part Number: TVS 5Vdc Unidir SMA; Manufacturer: WE; Voltage: 5Vdc; Breakdown Voltage: 6,7Vdc; Overvoltage Current: 43,5A; OrderingCode: 824500500; Temp_ Max: 150; Temp_ Min: -65; Price (€): 0,108
footprint DO-214AC-SMA_Unidir
pins: A, K
1 alternate drawing of the same symbol

## USB ESD Single
designator D?, comment ESDUSB  (value not drawn)
Protection, USB ESD; Part Number: USB ESD Single; Manufacturer: Würth; OrderingCode: 82400152; Temp_ Max: 125; Temp_ Min: -40; OrderingCode 2: CDSOT563-0502; Supplier: Würth; Price (€): 0,1; Manufacturer 2: Bourns
footprint SOT563
pins: 1, 2, 3, 4, 5, 6